# Altium footprint library BatteryCharger.PcbLib: 2 footprints
Each footprint in its own frame and in the unit in brackets; x right, y up, seen from the top. Pads: shape width x height; smd on the part's side, far side on the other; paste and mask are expansions set on the pad; w line width, h text height; cw(c..) or ccw(c..) is an arc to the next point about the centre after c.
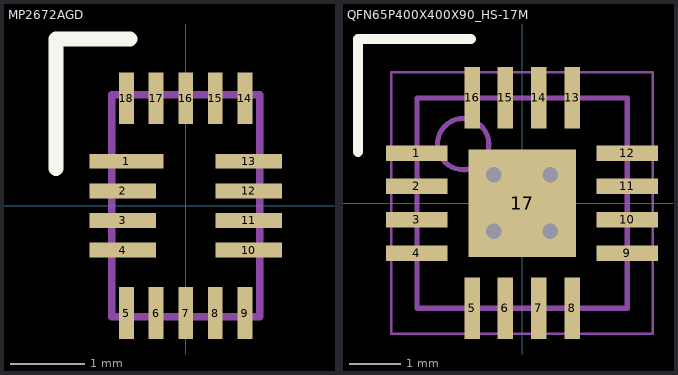
[diagram p0: the footprints below, top view; thin cyan lines are the x and y axes]

## MP2672AGD [mm]
pads (18):
  rect 1x0.2 smd: 1(-0.8,0.6)
  rect 0.9x0.2 smd: 2(-0.85,0.2) 3(-0.85,-0.2) 4(-0.85,-0.6) 10(0.85,-0.6) 11(0.85,-0.2) 12(0.85,0.2) 13(0.85,0.6)
  rect 0.2x0.7 smd: 5(-0.8,-1.45) 6(-0.4,-1.45) 7(0,-1.45) 8(0.4,-1.45) 9(0.8,-1.45) 14(0.8,1.45) 15(0.4,1.45) 16(0,1.45) 17(-0.4,1.45) 18(-0.8,1.45)
Top Overlay:
  lines w0.2: -1.75,0.5 -1.75,1.5 -1.75,2.25 -0.75,2.25
Mechanical 13:
  lines w0.1: -1,-1.5 1,-1.5 1,1.5 -1,1.5 -1,-1.5
3D body "MP2672AGD-0000-P.stp": height 0.87, standoff -0.03, extent -1,-1.5 1,1.5

## QFN65P400X400X90_HS-17M [mm] "QFN, 16-Leads, Body 4.00x4.00mm, Pitch 0.65mm, Thermal Pad 2.10x2.10mm, IPC Low Density"
height 0.9
pads (17):
  rect 1.2x0.3 smd mask+0.05: 1(-2.05,0.975) 2(-2.05,0.325) 3(-2.05,-0.325) 4(-2.05,-0.975) 9(2.05,-0.975) 10(2.05,-0.325) 11(2.05,0.325) 12(2.05,0.975)
  rect 0.3x1.2 smd mask+0.05: 5(-0.975,-2.05) 6(-0.325,-2.05) 7(0.325,-2.05) 8(0.975,-2.05) 13(0.975,2.05) 14(0.325,2.05) 15(-0.325,2.05) 16(-0.975,2.05)
  rect 2.1x2.1 smd mask+0.05: 17(0,0)
via -0.55,0.55 diameter 0.7 hole 0.3
via 0.55,0.55 diameter 0.7 hole 0.3
via 0.55,-0.55 diameter 0.7 hole 0.3
via -0.55,-0.55 diameter 0.7 hole 0.3
Top Overlay:
  lines w0.2: -3.2,1 -3.2,3.2 -1,3.2
Mechanical 13:
  circle w0.1: c-1.15,1.15 r0.5
  lines w0.1: -2.05,-2.05 -2.05,2.05 2.05,2.05 2.05,-2.05 -2.05,-2.05
Mechanical 15:
  lines w0.05: -2.55,-2.55 -2.55,2.55 2.55,2.55 2.55,-2.55 -2.55,-2.55
  lines w0.1: -0.5,0 0.5,0 ; 0,-0.5 0,0.5
3D body "QFN65P400X400X90_HS-17M.step": height 1, standoff 0.1, extent -2.051,-2.051 2.051,2.051